# EAGLE library part 1X8 (library weidmüller)
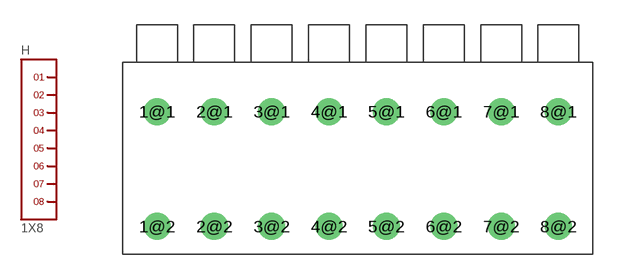
[diagram p2: symbol with the pads of 1824480000; footprint 1824480000]

Designator prefix H

## 1X8  [1824480000]
1@1  1
1@2  1
2@1  2
2@2  2
3@1  3
3@2  3
4@1  4
4@2  4
5@1  5
5@2  5
6@1  6
6@2  6
7@1  7
7@2  7
8@1  8
8@2  8

## Footprint 1824480000 (pad centres in mm)
drill 1.1: 1@1 -12.25,8.7; 1@2 -12.25,1.7; 2@1 -8.75,8.7; 2@2 -8.75,1.7; 3@1 -5.25,8.7; 3@2 -5.25,1.7; 4@1 -1.75,8.7; 4@2 -1.75,1.7; 5@1 1.75,8.7; 5@2 1.75,1.7; 6@1 5.25,8.7; 6@2 5.25,1.7; 7@1 8.75,8.7; 7@2 8.75,1.7; 8@1 12.25,8.7; 8@2 12.25,1.7